# Altium footprint library Vyrodov.PcbLib: 62 footprints (part 4 of 5)
Each footprint in its own frame and in the unit in brackets; x right, y up, seen from the top. Pads: shape width x height; smd on the part's side, far side on the other; paste and mask are expansions set on the pad; w line width, h text height; cw(c..) or ccw(c..) is an arc to the next point about the centre after c.
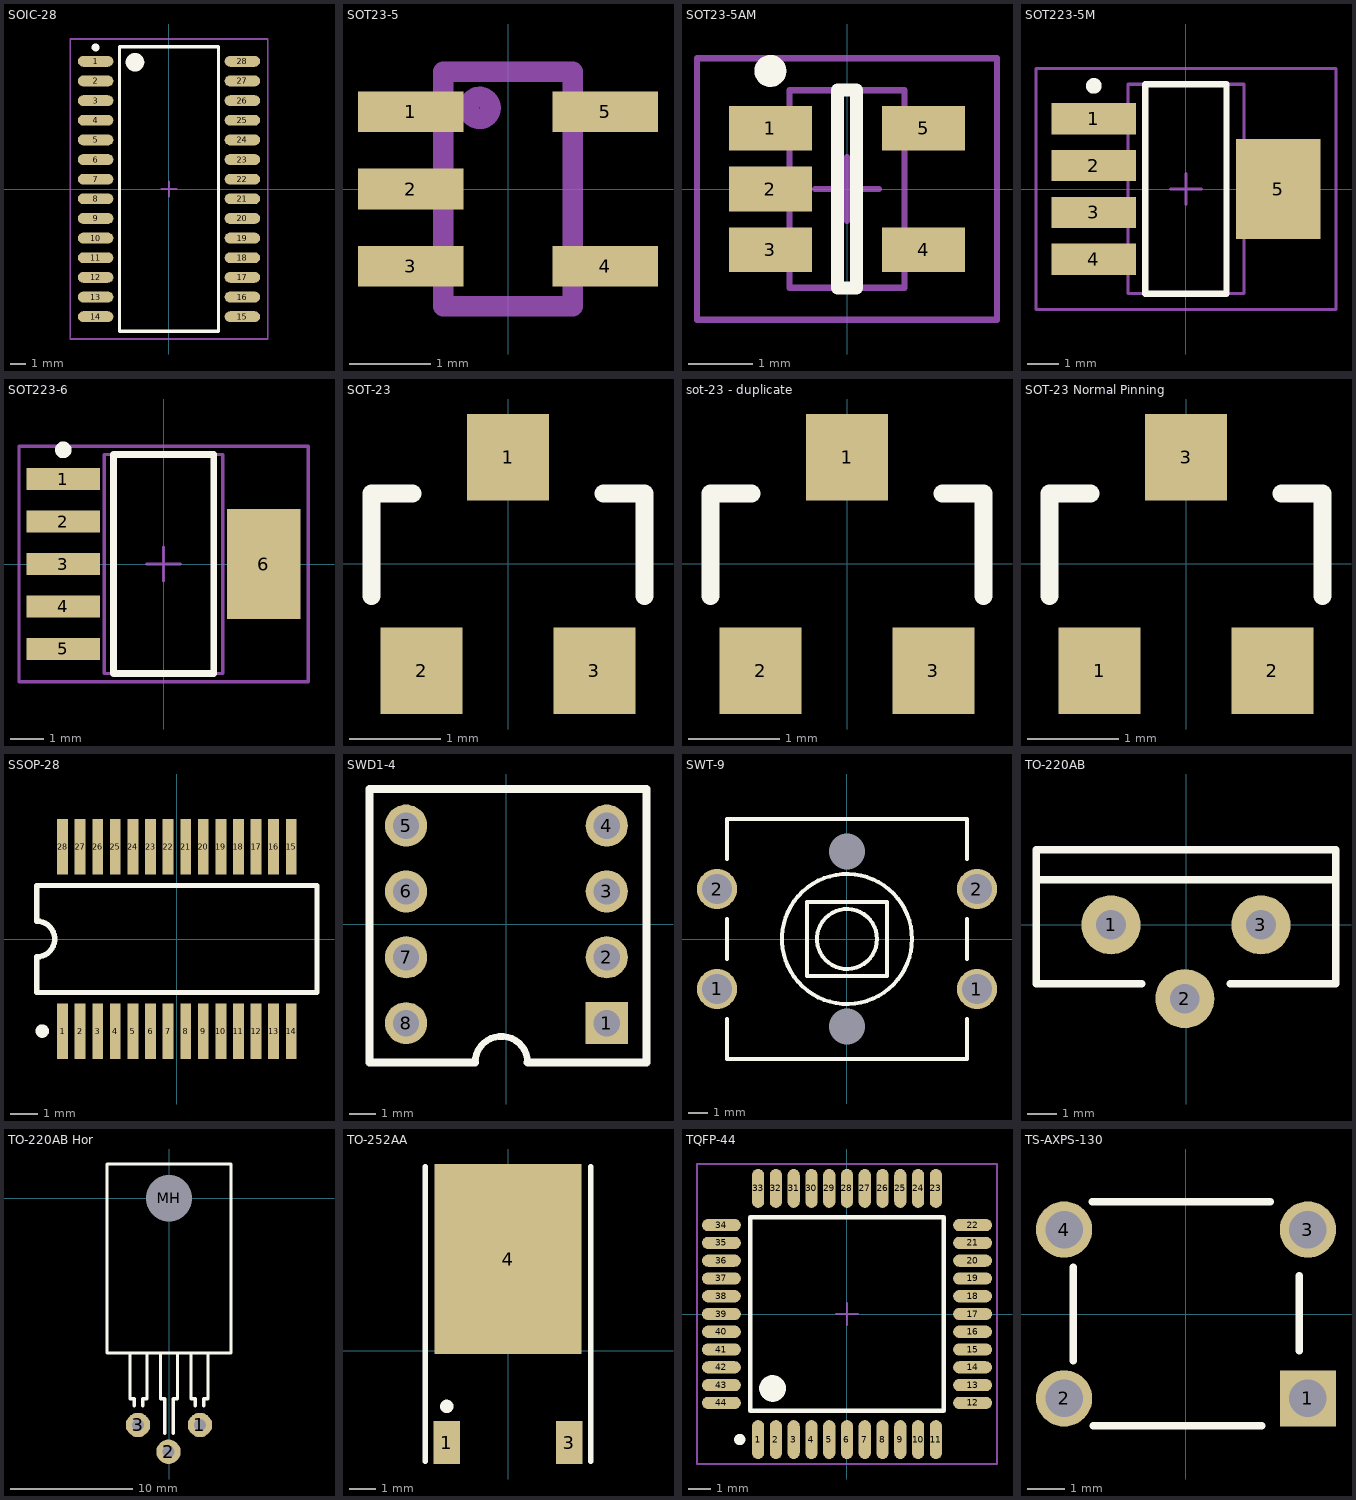
[diagram p3: the footprints below, top view; thin cyan lines are the x and y axes]

## SOIC-28 [mm] "SOIC, 28-Leads, Body 18.2x7.5mm, Pitch 1.27mm, IPC Low Density"
height 2.64
pads (28):
  oval 2.3x0.7 smd: 1(-4.75,8.255) 2(-4.75,6.985) 3(-4.75,5.715) 4(-4.75,4.445) 5(-4.75,3.175) 6(-4.75,1.905) 7(-4.75,0.635) 8(-4.75,-0.635) 9(-4.75,-1.905) 10(-4.75,-3.175) 11(-4.75,-4.445) 12(-4.75,-5.715) 13(-4.75,-6.985) 14(-4.75,-8.255) 15(4.75,-8.255) 16(4.75,-6.985) 17(4.75,-5.715) 18(4.75,-4.445) 19(4.75,-3.175) 20(4.75,-1.905) 21(4.75,-0.635) 22(4.75,0.635) 23(4.75,1.905) 24(4.75,3.175) 25(4.75,4.445) 26(4.75,5.715) 27(4.75,6.985) 28(4.75,8.255)
Top Overlay:
  circle w0.6: c-2.2,8.2 r0.3
  circle w0.25: c-4.75,9.155 r0.125
  lines w0.2: -3.2,-9.2 3.2,-9.2 3.2,9.2 -3.2,9.2 -3.2,-9.2
Mechanical 15:
  lines w0.1: -0.5,0 0.5,0 ; 0,-0.5 0,0.5 ; -6.4,-9.7 6.4,-9.7 6.4,9.7 -6.4,9.7 -6.4,-9.7
3D body "SOIC-28.STEP": height 2.62, standoff 0.02, extent -5.3,-9.05 5.3,9.05

## SOT23-5 [mm] "SOT23, 5-Leads, Body 2.9x1.7mm, Pitch 0.95mm, Lead Span 2.8mm, IPC Low Density"
height 1.45
pads (5):
  rect 1.3x0.5 smd: 1(-1.2,0.95) 2(-1.2,0) 3(-1.2,-0.95) 4(1.2,-0.95) 5(1.2,0.95)
Assembly Top:
  circle w0.254: c-0.35,1 r0.135
  lines w0.254: -0.8,1.425 -0.8,-1.448 0.8,-1.448 ; -0.8,1.448 0.8,1.448 0.8,-1.425
3D body "User Library-SOT23-5-2 (1).step": height 1.45, standoff 0, extent -1.4,-1.45 1.4,1.45

## SOT23-5AM [mm] "SOT23, 5-Leads, Body 2.9x1.7mm, Pitch 0.95mm, Lead Span 2.8mm, IPC Low Density"
height 1.45
pads (5):
  rect 1.3x0.7 smd: 1(-1.2,0.95) 2(-1.2,0) 3(-1.2,-0.95) 4(1.2,-0.95) 5(1.2,0.95)
Top Overlay:
  circle w0.25: c-1.2,1.85 r0.125
  lines w0.2: -0.15,-1.55 -0.15,1.55 0.15,1.55 0.15,-1.55 -0.15,-1.55
Mechanical 13:
  lines w0.1: -0.9,-1.55 0.9,-1.55 0.9,1.55 -0.9,1.55 -0.9,-1.55
Mechanical 15:
  lines w0.1: -0.5,0 0.5,0 ; 0,-0.5 0,0.5 ; -2.35,-2.05 2.35,-2.05 2.35,2.05 -2.35,2.05 -2.35,-2.05
3D body: height 1.45, standoff 0, extent -0.9,-1.55 0.9,1.55

## SOT223-5M [mm] "SOT223, 5-Leads, Body 6.5x3.5mm, Pitch 1.5mm, Lead Span 7mm, IPC Low Density"
height 1.8
pads (5):
  rect 2.7x1 smd: 1(-2.95,2.25) 2(-2.95,0.75) 3(-2.95,-0.75) 4(-2.95,-2.25)
  rect 2.7x3.2 smd: 5(2.95,0)
Top Overlay:
  circle w0.25: c-2.95,3.3 r0.125
  lines w0.2: -1.3,-3.35 1.3,-3.35 1.3,3.35 -1.3,3.35 -1.3,-3.35
Mechanical 13:
  lines w0.1: -1.85,-3.35 1.85,-3.35 1.85,3.35 -1.85,3.35 -1.85,-3.35
Mechanical 15:
  lines w0.1: -0.5,0 0.5,0 ; 0,-0.5 0,0.5 ; -4.8,-3.85 4.8,-3.85 4.8,3.85 -4.8,3.85 -4.8,-3.85
3D body: height 1.8, standoff 0, extent -1.85,-3.35 1.85,3.35

## SOT223-6 [mm] "SOT223, 6-Leads, Body 6,6x7,3mm (max), Pitch 1,27mm, IPC Medium Density"
height 1.8
pads (6):
  rect 2.2x0.65 smd: 1(-3,2.54) 2(-3,1.27) 3(-3,0) 4(-3,-1.27) 5(-3,-2.54)
  rect 2.2x3.3 smd: 6(3,0)
Top Overlay:
  circle w0.25: c-3,3.415 r0.125
  lines w0.2: -1.5,-3.275 1.5,-3.275 1.5,3.275 -1.5,3.275 -1.5,-3.275
Mechanical 13:
  lines w0.1: -1.775,-3.275 1.775,-3.275 1.775,3.275 -1.775,3.275 -1.775,-3.275
Mechanical 15:
  lines w0.1: -0.5,0 0.5,0 ; 0,-0.5 0,0.5 ; -4.325,-3.525 4.325,-3.525 4.325,3.525 -4.325,3.525 -4.325,-3.525
3D body: height 1.8, standoff 0.02, extent -1.775,-3.275 1.775,3.275

## SOT-23 [mm] "SOT-23; 3 Leads; Body 3.0 x 2.5 mm, inc. leads (LxW max), Alternate Lead Configuration"
height 1.1
pads (3):
  rect 0.9x0.95 smd: 1(0,1.175) 2(-0.95,-1.175) 3(0.95,-1.175)
Top Overlay:
  lines w0.2: -1.5,-0.35 -1.5,0.775 -1.05,0.775 ; 1.05,0.775 1.5,0.775 1.5,-0.35
3D body "CircuitWorks-SOT-23.step": height 1.08, standoff -0.02, extent -1.5,-1.25 1.5,1.25

## sot-23 - duplicate [mm]
pads (3):
  rect 0.9x0.95 smd: 1(0,1.175) 2(-0.95,-1.175) 3(0.95,-1.175)
Top Overlay:
  lines w0.2: -1.5,-0.35 -1.5,0.775 -1.05,0.775 ; 1.05,0.775 1.5,0.775 1.5,-0.35
3D body "CircuitWorks-SOT-23.step": height 1.08, standoff -0.02, extent -1.5,-1.25 1.5,1.25

## SOT-23 Normal Pinning [mm] "SOT-23; 3 Leads; Body 3.0 x 2.5 mm, inc. leads (LxW max), Alternate Lead Configuration"
height 1.1
pads (3):
  rect 0.9x0.95 smd: 1(-0.95,-1.175) 2(0.95,-1.175) 3(0,1.175)
Top Overlay:
  lines w0.2: -1.5,-0.35 -1.5,0.775 -1.05,0.775 ; 1.05,0.775 1.5,0.775 1.5,-0.35
3D body "CircuitWorks-SOT-23.step": height 1.08, standoff -0.02, extent -1.5,-1.25 1.5,1.25

## SSOP-28 [mm] "SSOP, Plastic; 28 Leads; Body Width 5.2 mm; Pitch 0.65 mm"
height 1.99
pads (28):
  rect 0.4x2.05 smd: 1(-4.225,-3.4) 2(-3.575,-3.4) 3(-2.925,-3.4) 4(-2.275,-3.4) 5(-1.625,-3.4) 6(-0.975,-3.4) 7(-0.325,-3.4) 8(0.325,-3.4) 9(0.975,-3.4) 10(1.625,-3.4) 11(2.275,-3.4) 12(2.925,-3.4) 13(3.575,-3.4) 14(4.225,-3.4) 15(4.225,3.4) 16(3.575,3.4) 17(2.925,3.4) 18(2.275,3.4) 19(1.625,3.4) 20(0.975,3.4) 21(0.325,3.4) 22(-0.325,3.4) 23(-0.975,3.4) 24(-1.625,3.4) 25(-2.275,3.4) 26(-2.925,3.4) 27(-3.575,3.4) 28(-4.225,3.4)
Top Overlay:
  circle w0.25: c-4.975,-3.4 r0.125
  lines w0.2: -5.175,-1.975 -5.175,-0.658 ccw(c-5.175,0) -5.175,0.658 -5.175,1.975 5.175,1.975 5.175,-1.975 -5.175,-1.975
3D body "SSOP-28.step": height 1.92, standoff -0.03, extent -5.225,-4.064 5.275,4.161

## SWD1-4 [mm]
height 13.4
pads (8):
  rect 1.6x1.6 hole 1: 1(3.81,-3.75)
  round 1.6 hole 1: 2(3.81,-1.25) 3(3.81,1.25) 4(3.81,3.75) 5(-3.81,3.75) 6(-3.81,1.25) 7(-3.81,-1.25) 8(-3.81,-3.75)
Top Overlay:
  lines w0.254: -1.19,-5.25 cw(c-0.19,-5.25) 0.81,-5.25
  lines w0.305: -1.19,-5.25 -5.19,-5.25 -5.19,5.14 5.31,5.14 5.31,-5.25 0.81,-5.25
3D body "SWD1-4_0_0000_S.STEP": height 7.8, standoff -2.41, extent -5.03,-5.07 5.13,4.97

## SWT-9 [mm]
pads (6):
  round 2 hole 1.5: 1(-6.5,-2.5) 1(6.5,-2.5) 2(-6.5,2.5) 2(6.5,2.5)
  round 0 hole 1.8 unplated: MH1(0,-4.375) MH1(0,4.375)
Top Overlay:
  circle w0.2: c0,0 r1.5
  circle w0.2: c0,0 r3.25
  lines w0.2: -6,-4 -6,-6 6,-6 6,-4 ; -6,-1 -6,1 ; -6,4 -6,6 6,6 6,4 ; 6,-1 6,1 ; -2,-1.85 -2,1.85 2,1.85 2,-1.85 -2,-1.85
3D body "SWT-9.step": height 9.5, standoff -3.5, extent -6.886,-5.974 6.987,6.026

## TO-220AB [mm]
height 19.2
pads (3):
  round 2 hole 1: 1(-2.54,0) 2(-0.04,-2.5) 3(2.54,0)
Top Overlay:
  lines w0.254: -5.08,1.524 5.08,1.524 ; -1.5,-2 -5.08,-2 -5.08,2.54 5.08,2.54 5.08,-2 1.5,-2

## TO-220AB Hor [mm]
height 19.2
pads (4):
  round 2 hole 1: 1(2.54,-18.6) 2(-0.04,-20.8) 3(-2.54,-18.6)
  round 1.9 hole 3.8: MH(0,0)
Top Overlay:
  lines w0.254: -3.2,-12.7 -3.2,-16.45 -2.85,-16.45 -2.85,-17.05 ; -2.15,-17.05 -2.15,-16.45 -1.8,-16.45 -1.8,-12.7 ; -0.7,-12.7 -0.7,-16.45 -0.35,-16.45 -0.35,-19.3 ; 0.35,-19.3 0.35,-16.45 0.7,-16.45 0.7,-12.7 ; 1.8,-12.7 1.8,-16.45 2.15,-16.45 2.15,-17.05 ; 2.85,-17.05 2.85,-16.45 3.2,-16.45 3.2,-12.7 ; -5.1,-12.7 5.1,-12.7 5.1,2.8 -5.1,2.8 -5.1,-12.7
3D body "TO220AB Hor.stp": height 4.4, standoff -2.5, extent -5.3,-20.96 5.5,2.9

## TO-252AA [mm] "D-PAK/TO-252-AA; 3 Leads (1 Cropped); Body 10.4 (inc. leads) x 6.7 mm (LxW max)"
height 2.38
pads (3):
  rect 1x1.6 smd: 1(-2.285,-3.425) 3(2.285,-3.425)
  rect 5.5x7.1 smd: 4(0,3.425)
Top Overlay:
  circle w0.25: c-2.285,-2.075 r0.125
  lines w0.2: -3.085,-4.125 -3.085,6.875 ; 3.085,-4.125 3.085,6.875
3D body "User Library-TO252AA.step": height 2.3, standoff -0.01, extent -3.315,-3.8 3.265,5.9

## TQFP-44 [mm]
pads (44):
  oval 0.55x1.75 smd: 1(-4,-5.65) 2(-3.2,-5.65) 3(-2.4,-5.65) 4(-1.6,-5.65) 5(-0.8,-5.65) 6(0,-5.65) 7(0.8,-5.65) 8(1.6,-5.65) 9(2.4,-5.65) 10(3.2,-5.65) 11(4,-5.65) 23(4,5.65) 24(3.2,5.65) 25(2.4,5.65) 26(1.6,5.65) 27(0.8,5.65) 28(0,5.65) 29(-0.8,5.65) 30(-1.6,5.65) 31(-2.4,5.65) 32(-3.2,5.65) 33(-4,5.65)
  oval 1.75x0.55 smd: 12(5.65,-4) 13(5.65,-3.2) 14(5.65,-2.4) 15(5.65,-1.6) 16(5.65,-0.8) 17(5.65,0) 18(5.65,0.8) 19(5.65,1.6) 20(5.65,2.4) 21(5.65,3.2) 22(5.65,4) 34(-5.65,4) 35(-5.65,3.2) 36(-5.65,2.4) 37(-5.65,1.6) 38(-5.65,0.8) 39(-5.65,0) 40(-5.65,-0.8) 41(-5.65,-1.6) 42(-5.65,-2.4) 43(-5.65,-3.2) 44(-5.65,-4)
Top Overlay:
  circle w0.6: c-3.35,-3.35 r0.3
  circle w0.25: c-4.825,-5.65 r0.125
  lines w0.2: -4.35,-4.35 -4.35,4.35 4.35,4.35 4.35,-4.35 -4.35,-4.35
Mechanical 15:
  lines w0.1: -0.5,0 0.5,0 ; 0,-0.5 0,0.5 ; -6.75,-6.75 -6.75,6.75 6.75,6.75 6.75,-6.75 -6.75,-6.75
3D body "TQFP-44.step": height 1.13, standoff 0.02, extent -6,-6 6,6

## TS-AXPS-130 [mm]
height 13
pads (4):
  rect 1.5x1.5 hole 1: 1(3.25,-2.25)
  round 1.5 hole 1: 2(-3.25,-2.25) 3(3.25,2.25) 4(-3.25,2.25)
Top Overlay:
  lines w0.2: -3,-1.25 -3,1.25 ; -2.5,3 2.25,3 ; -2.475,-2.975 2.025,-2.975 ; 3.025,-0.975 3.025,1.025